# Altium footprint library 1-Antenna.P.PcbLib: 44 footprints (part 1 of 3)
Each footprint in its own frame and in the unit in brackets; x right, y up, seen from the top. Pads: shape width x height; smd on the part's side, far side on the other; paste and mask are expansions set on the pad; w line width, h text height; cw(c..) or ccw(c..) is an arc to the next point about the centre after c.
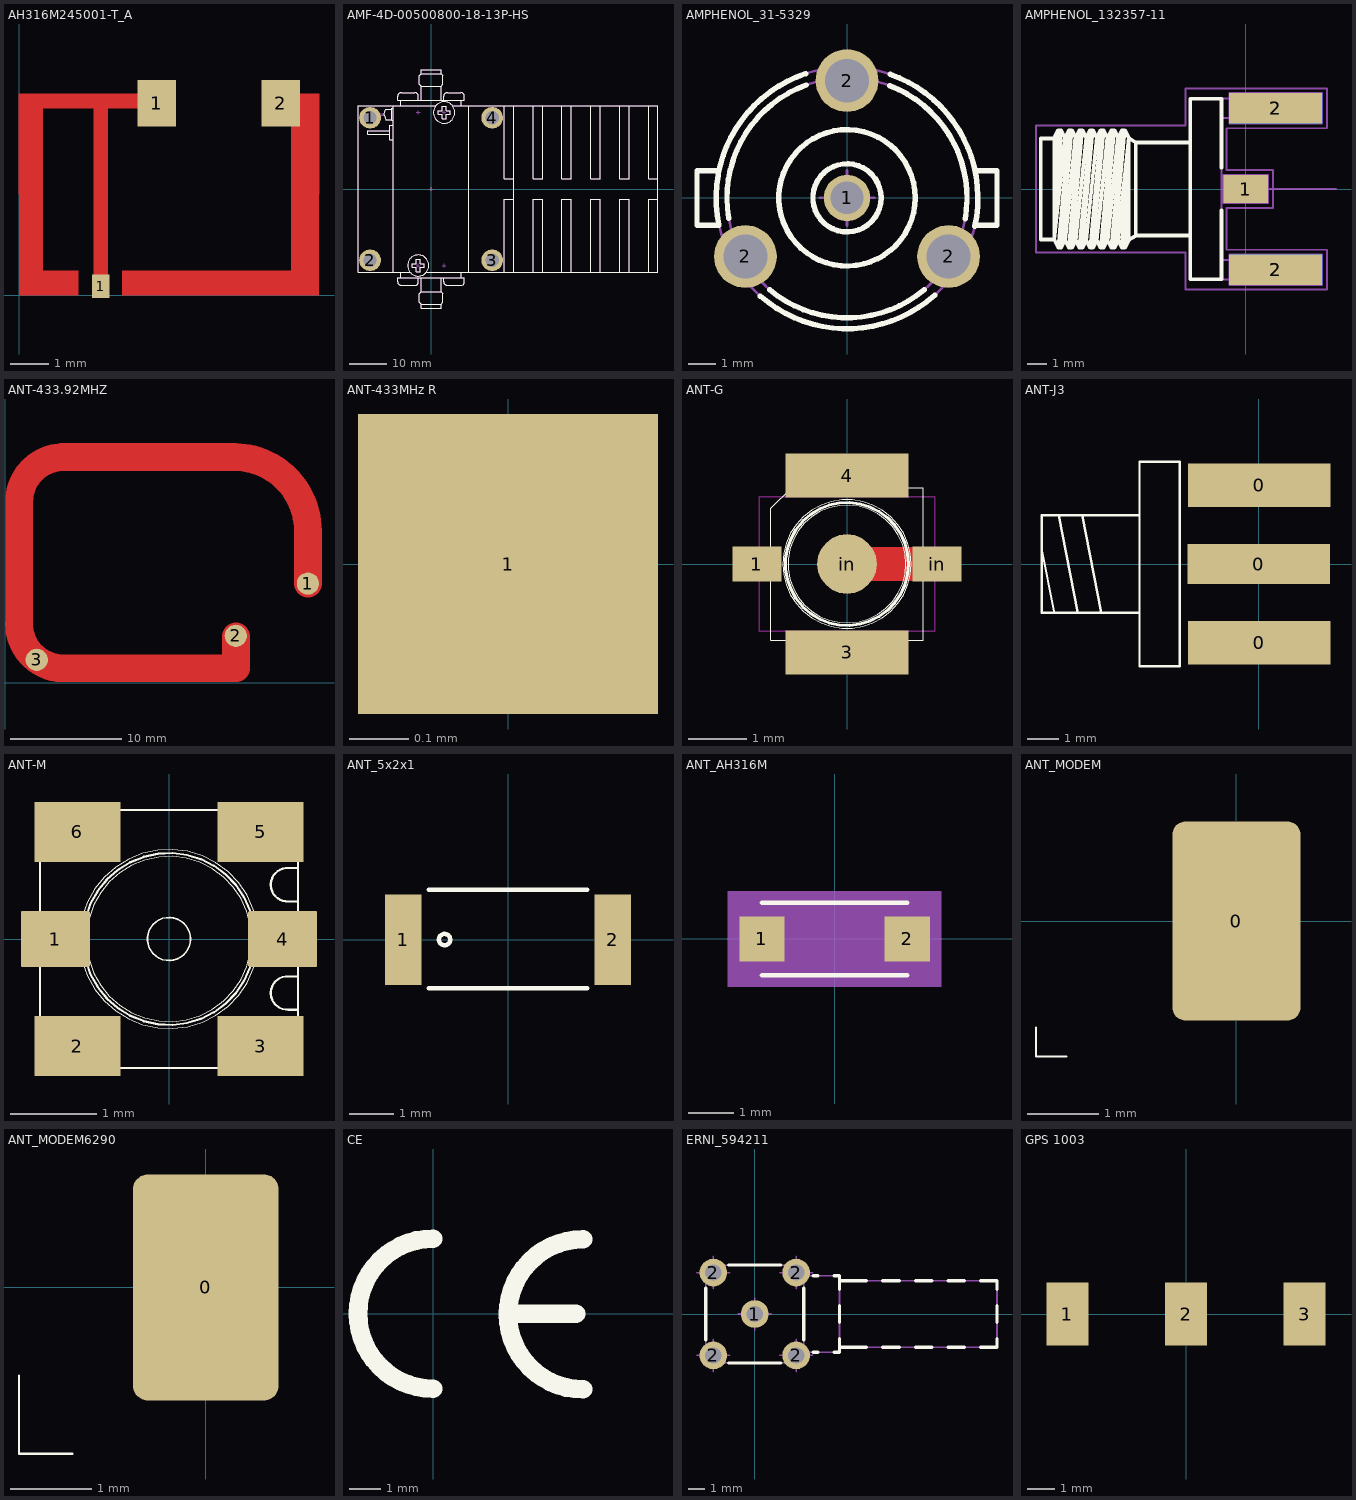
[diagram p0: the footprints below, top view; thin cyan lines are the x and y axes]

## AH316M245001-T_A [mil]
pads (3):
  rect 17.99x23.58 smd mask+2.76: 1(83,9)
  rect 39.37x47.24 smd: 1(140,195) 2(265.98,195)
Top Layer:
  region: 140,190 90,190 90,0 76,0 76,190 24,190 24,25 60,25 60,0 0,0 0,205 140,205
  region: 277,25 105,25 105,0 305,0 305,205 277,205
3D body "ah-316.stp": height 21.26, standoff 0.79, extent 140.01,163.11 266,226.89
3D body "ah316m245001.stp": height 1.97, standoff 0, extent 2.01,-0.05 305.16,222

## AMF-4D-00500800-18-13P-HS [mm] "AMF Series Amplifier With HeatSink"
height 16.4
pads (4):
  round 5.75 hole 3.5: 1(-16.2,18.9) 2(-16.2,-18.9) 3(16.2,-18.9) 4(16.2,18.9)
Top Overlay:
  circle w0.2: c3.459,20.3 r2.844
  circle w0.2: c-3.429,-20.3 r2.795
  lines w0.2: -16.2,22.1 -19.4,22.1 ; -11.008,14.48 -16.8,14.48 -16.8,15.48 -11.008,15.48 ; -10.5,18.425 -12,18.425 -12.4,19.6 -12.4,20 -12,21.175 -10.5,21.175 ; -10,-22.1 -10,22.1 ; -10,13.08 -11.008,13.08 -11.008,16.88 -10,16.88 ; -10,18.2 -10.5,18.2 -10.5,21.4 -10,21.4 ; -7.939,-23.6 -8.85,-23.6 -8.85,-24.6 ccw(c-7.85,-24.6) -7.85,-25.6 -4.35,-25.6 ccw(c-4.35,-24.6) -3.35,-24.6 -3.35,-23.6 ; -7.939,23.6 -8.85,23.6 -8.85,24.6 cw(c-7.85,24.6) -7.85,25.6 -4.35,25.6 cw(c-4.35,24.6) -3.35,24.6 -3.35,23.6 ; -2.65,-23.6 -2.65,-27.29 ; -2.65,23.6 -2.65,27.29 ; -1.291,-22.1 60.2,-22.1 60.2,22.1 5.631,22.1 ; 2.65,-23.6 2.65,-27.29 ; 2.65,23.6 2.65,27.29 ; 3.35,-23.6 3.35,-24.6 ccw(c4.35,-24.6) 4.35,-25.6 7.85,-25.6 ccw(c7.85,-24.6) 8.85,-24.6 8.85,-23.6 7.939,-23.6 ; 3.35,23.6 3.35,24.6 cw(c4.35,24.6) 4.35,25.6 7.85,25.6 cw(c7.85,24.6) 8.85,24.6 8.85,23.6 7.939,23.6 -8,23.6 ; 8,-22.1 8,-23.6 -8,-23.6 -8,-22.1 -5.567,-22.1 -19.4,-22.1 -19.4,22.1 ; 8,22.1 8,23.6 -8,23.6 ; 10,-22.1 10,22.1 ; 19.4,-22.1 19.4,-2.7 21.9,-2.7 ; 19.4,22.1 19.4,2.7 21.9,2.7 ; 21.9,-22.1 21.9,-2.7 ; 21.9,22.1 21.9,2.7 ; 27.06,-22.1 27.06,-2.7 29.56,-2.7 29.56,-22.1 ; 27.06,22.1 27.06,2.7 29.56,2.7 29.56,22.1 ; 34.72,-22.1 34.72,-2.7 37.22,-2.7 37.22,-22.1 ; 34.72,22.1 34.72,2.7 37.22,2.7 37.22,22.1 ; 42.38,-22.1 42.38,-2.7 44.88,-2.7 44.88,-22.1 ; 42.38,22.1 42.38,2.7 44.88,2.7 44.88,22.1 ; 50.04,-22.1 50.04,-2.7 52.54,-2.7 52.54,-22.1 ; 50.04,22.1 50.04,2.7 52.54,2.7 52.54,22.1 ; 57.7,-22.1 57.7,-2.7 60.2,-2.7 ; 57.7,22.1 57.7,2.7 60.2,2.7 ; -19.4,22.1 1.257,22.1 -8,22.1 ; -8,22.1 -8,23.6 ; -8,22.1 -8,23.6 ; -2.65,-30.6 -3.15,-30.1 -3.15,-27.79 -2.65,-27.29 ; -2.65,-30.6 -2.65,-31.6 2.65,-31.6 2.65,-30.6 ; -2.65,-30.6 2.65,-30.6 ; -2.65,-27.29 2.65,-27.29 ; -2.65,27.29 -3.15,27.79 -3.15,30.1 -2.65,30.6 ; -2.65,27.29 2.65,27.29 ; -2.65,30.6 -2.65,31.6 2.65,31.6 2.65,30.6 ; -2.65,30.6 2.65,30.6 ; 2.65,-30.6 3.15,-30.1 3.15,-27.79 2.65,-27.29 ; 2.65,27.29 3.15,27.79 3.15,30.1 2.65,30.6 ; 21.9,-2.7 21.9,2.7 ; -5.033,-20.8 -5.033,-19.8 -3.929,-19.8 -3.929,-18.696 -2.929,-18.696 -2.929,-19.8 -1.825,-19.8 -1.825,-20.8 -2.929,-20.8 -2.929,-21.904 -3.929,-21.904 -3.929,-20.8 -5.033,-20.8 ; 1.855,19.8 1.855,20.8 2.959,20.8 2.959,21.904 3.959,21.904 3.959,20.8 5.064,20.8 5.064,19.8 3.959,19.8 3.959,18.696 2.959,18.696 2.959,19.8 1.855,19.8
Mechanical 8:
  lines w0.1: -16.7,-18.9 -16.2,-18.9 ; -16.7,18.9 -16.2,18.9 ; -16.2,-19.4 -16.2,-18.9 ; -16.2,-18.4 -16.2,-18.9 ; -16.2,18.4 -16.2,18.9 ; -16.2,19.4 -16.2,18.9 ; -15.7,-18.9 -16.2,-18.9 ; -15.7,18.9 -16.2,18.9 ; 15.7,-18.9 16.2,-18.9 ; 15.7,18.9 16.2,18.9 ; 16.2,-19.4 16.2,-18.9 ; 16.2,-18.4 16.2,-18.9 ; 16.2,18.4 16.2,18.9 ; 16.2,19.4 16.2,18.9 ; 16.7,-18.9 16.2,-18.9 ; 16.7,18.9 16.2,18.9 ; -3.429,-20.3 -3.929,-20.3 -3.429,-20.3 ; -3.429,-20.3 -3.429,-20.8 -3.429,-20.3 ; -3.429,-20.3 -2.929,-20.3 -3.429,-20.3 ; -3.429,-20.3 -3.429,-19.8 -3.429,-20.3 ; -3.429,20.3 -2.929,20.3 -3.429,20.3 ; -3.429,20.3 -3.429,19.8 -3.429,20.3 ; -3.429,20.3 -3.929,20.3 -3.429,20.3 ; -3.429,20.3 -3.429,20.8 -3.429,20.3 ; 0,0 -0.5,0 0,0 ; 0,0 0,-0.5 0,0 ; 0,0 0.5,0 0,0 ; 0,0 0,0.5 0,0 ; 3.429,-20.3 3.929,-20.3 3.429,-20.3 ; 3.429,-20.3 3.429,-20.8 3.429,-20.3 ; 3.429,-20.3 2.929,-20.3 3.429,-20.3 ; 3.429,-20.3 3.429,-19.8 3.429,-20.3 ; 3.429,20.3 2.929,20.3 3.429,20.3 ; 3.429,20.3 3.429,19.8 3.429,20.3 ; 3.429,20.3 3.929,20.3 3.429,20.3 ; 3.429,20.3 3.429,20.8 3.429,20.3
Mechanical 14:
  drawing of 154 lines, arcs and shapes, not listed
3D body "AMF-4D-00500800-18-13P-HS.stp": height 16.5, standoff 0, extent -19.4,-31.6 60.2,31.6

## AMPHENOL_31-5329 [mm] "50 Ohm BNC PCB Receptacle (Jack), Post Terminal, 3 Legs"
height 17.6
pads (4):
  round 1.7 hole 1.2: 1(0,0)
  round 2.3 hole 1.6: 2(-3.724,-2.15) 2(0,4.3) 2(3.724,-2.15)
Top Overlay:
  circle w0.2: c0,0 r1.25
  circle w0.2: c0,0 r2.5
  lines w0.2: -4.695,1 -5.5,1 -5.5,-1 -4.695,-1 cw(c0,0) -1.518,4.554 ; -4.335,-0.752 cw(c0,0) -1.496,4.138 ; -3.175,-3.6 ccw(c0,0) 3.214,-3.565 ; -2.839,-3.362 ccw(c0,0) 2.824,-3.374 ; 1.569,4.111 cw(c0,0) 4.332,-0.772 ; 1.578,4.533 cw(c0,0) 4.685,-1.047 ; 4.695,-1 5.5,-1 5.5,1 4.695,1
Mechanical 8:
  lines w0.1: -4.59,-2.65 -3.724,-2.15 ; -4.224,-1.284 -3.724,-2.15 ; -3.224,-3.016 -3.724,-2.15 ; -2.858,-1.65 -3.724,-2.15 ; -1,0 0,0 ; -1,4.3 0,4.3 ; 0,-1 0,0 ; 0,1 0,0 ; 0,3.3 0,4.3 ; 0,5.3 0,4.3 ; 1,0 0,0 ; 1,4.3 0,4.3 ; 2.858,-1.65 3.724,-2.15 ; 3.224,-3.016 3.724,-2.15 ; 4.224,-1.284 3.724,-2.15 ; 4.59,-2.65 3.724,-2.15
Mechanical 14:
  circle w0.1: c0,0 r2.5
  circle w0.1: c0,0 r4.4
  circle w0.1: c0,0 r4.8
  lines w0.1: -4.695,-1 -5.5,-1 -5.5,1 -4.695,1 ; 4.695,-1 5.5,-1 5.5,1 4.695,1
3D body "v1712.stp": height 0.04, standoff -1.66, extent -0.85,-0.85 0.85,0.85
3D body "v230016.stp": height 0.04, standoff -1.66, extent -1.15,3.15 1.15,5.45
3D body "v230016.stp": height 0.04, standoff -1.66, extent 2.574,-3.3 4.874,-1
3D body "v230016.stp": height 0.04, standoff -1.66, extent -4.874,-3.3 -2.574,-1
3D body "AMPHENOL_31-5329.stp": height 17, standoff -3.2, extent -5.5,-4.8 5.5,4.8

## AMPHENOL_132357-11 [mm] "SMA End Launch Jack for 1.58mm PCB, 50 Ohm, Flat Tab Contact"
height 7.92
pads (5):
  rect 2.35x1.5 smd: 1(0,0)
  rect 4.9x1.6 smd: 2(1.575,-4.25) 2(1.575,4.25)
  rect 4.9x1.6 smd far side: 2(1.575,-4.25) 2(1.575,4.25)
Top Overlay:
  lines w0.2: -10.09,2.665 -10.805,2.665 -10.805,-2.665 -10.09,-2.665 ; -6.17,-2.665 -5.795,-2.453 ; -2.925,-2.453 -5.795,-2.453 ; -2.925,2.447 -5.795,2.447 ; -1.275,-1.137 -1.275,-4.76 -2.925,-4.76 -2.925,4.76 -1.275,4.76 -1.275,1.137 ; -10.09,-2.665 -10.09,2.715 -9.879,3.094 ; -10.09,-2.665 -9.879,-3.094 ; -10.09,-2.665 -9.53,2.715 ; -10.09,-2.665 -9.741,3.094 ; -10.09,-2.665 -9.879,3.094 ; -9.879,-3.094 -9.741,-3.094 ; -9.879,-3.094 -9.319,3.094 ; -9.879,3.094 -9.741,3.094 ; -9.741,-3.094 -9.53,-2.715 ; -9.741,-3.094 -9.181,3.094 ; -9.741,3.094 -9.53,2.715 ; -9.53,-2.715 -9.319,-3.094 ; -9.53,-2.715 -8.97,2.715 ; -9.53,2.715 -9.319,3.094 ; -9.319,-3.094 -9.181,-3.094 ; -9.319,-3.094 -8.759,3.094 ; -9.319,3.094 -9.181,3.094 ; -9.181,-3.094 -8.97,-2.715 ; -9.181,-3.094 -8.621,3.094 ; -9.181,3.094 -8.97,2.715 ; -8.97,-2.715 -8.759,-3.094 ; -8.97,-2.715 -8.41,2.715 ; -8.97,2.715 -8.759,3.094 ; -8.759,-3.094 -8.621,-3.094 ; -8.759,-3.094 -8.199,3.094 ; -8.759,3.094 -8.621,3.094 ; -8.621,-3.094 -8.41,-2.715 ; -8.621,-3.094 -8.061,3.094 ; -8.621,3.094 -8.41,2.715 ; -8.41,-2.715 -8.199,-3.094 ; -8.41,-2.715 -7.85,2.715 ; -8.41,2.715 -8.199,3.094 ; -8.199,-3.094 -8.061,-3.094 ; -8.199,-3.094 -7.639,3.094 ; -8.199,3.094 -8.061,3.094 ; -8.061,-3.094 -7.85,-2.715 ; -8.061,-3.094 -7.501,3.094 ; -8.061,3.094 -7.85,2.715 ; -7.85,-2.715 -7.639,-3.094 ; -7.85,-2.715 -7.29,2.715 ; -7.85,2.715 -7.639,3.094 ; -7.639,-3.094 -7.501,-3.094 ; -7.639,-3.094 -7.079,3.094 ; -7.639,3.094 -7.501,3.094 ; -7.501,-3.094 -7.29,-2.715 ; -7.501,-3.094 -6.941,3.094 ; -7.501,3.094 -7.29,2.715 ; -7.29,-2.715 -7.079,-3.094 ; -7.29,-2.715 -6.73,2.715 ; -7.29,2.715 -7.079,3.094 ; -7.079,-3.094 -6.941,-3.094 ; -7.079,-3.094 -6.519,3.094 ; -7.079,3.094 -6.941,3.094 ; -6.941,-3.094 -6.73,-2.715 ; -6.941,-3.094 -6.381,3.094 ; -6.941,3.094 -6.73,2.715 ; -6.73,-2.715 -6.519,-3.094 ; -6.73,-2.715 -6.17,2.713 ; -6.73,2.715 -6.519,3.094 ; -6.519,-3.094 -6.381,-3.094 ; -6.519,-3.094 -6.17,2.713 ; -6.519,3.094 -6.381,3.094 ; -6.381,-3.094 -6.17,-2.715 -6.17,2.713 ; -6.381,-3.094 -6.17,2.665 -5.795,2.447 ; -6.381,3.094 -6.17,2.713 ; -5.795,-2.453 -5.795,2.447
Mechanical 8:
  lines w0.1: -0.5,0 0,0 ; 0,-0.5 0,0 ; 0,0.5 0,0 ; 0.5,0 0,0 ; 1.075,-4.25 1.575,-4.25 ; 1.075,4.25 1.575,4.25 ; 1.575,-4.75 1.575,-4.25 ; 1.575,-3.75 1.575,-4.25 ; 1.575,3.75 1.575,4.25 ; 1.575,4.75 1.575,4.25 ; 2.075,-4.25 1.575,-4.25 ; 2.075,4.25 1.575,4.25 ; -1.175,-0.75 -1.175,0.75 1.175,0.75 1.175,-0.75 -1.175,-0.75 ; -0.875,-5.05 4.025,-5.05 4.025,-3.45 -0.875,-3.45 -0.875,-5.05 ; -0.875,3.45 4.025,3.45 4.025,5.05 -0.875,5.05 -0.875,3.45
Mechanical 14:
  lines w0.1: -10.09,2.665 -10.805,2.665 -10.805,-2.665 -10.09,-2.665 ; -6.17,-2.665 -5.795,-2.453 ; -2.925,-2.453 -5.795,-2.453 ; -2.925,2.447 -5.795,2.447 ; -1.275,-4.76 -1.275,0 ; -1.275,-3.74 3.475,-3.74 3.475,-4.76 -2.925,-4.76 -2.925,4.76 3.475,4.76 3.475,3.74 -1.275,3.74 ; -1.275,-0.251 0.635,-0.251 0.635,0.251 -1.275,0.251 ; -1.275,4.76 -1.275,0 ; 4.75,0 -1.275,0 ; -10.09,-2.665 -10.09,2.715 -9.879,3.094 ; -10.09,-2.665 -9.879,-3.094 ; -10.09,-2.665 -9.53,2.715 ; -10.09,-2.665 -9.741,3.094 ; -10.09,-2.665 -9.879,3.094 ; -9.879,-3.094 -9.741,-3.094 ; -9.879,-3.094 -9.319,3.094 ; -9.879,3.094 -9.741,3.094 ; -9.741,-3.094 -9.53,-2.715 ; -9.741,-3.094 -9.181,3.094 ; -9.741,3.094 -9.53,2.715 ; -9.53,-2.715 -9.319,-3.094 ; -9.53,-2.715 -8.97,2.715 ; -9.53,2.715 -9.319,3.094 ; -9.319,-3.094 -9.181,-3.094 ; -9.319,-3.094 -8.759,3.094 ; -9.319,3.094 -9.181,3.094 ; -9.181,-3.094 -8.97,-2.715 ; -9.181,-3.094 -8.621,3.094 ; -9.181,3.094 -8.97,2.715 ; -8.97,-2.715 -8.759,-3.094 ; -8.97,-2.715 -8.41,2.715 ; -8.97,2.715 -8.759,3.094 ; -8.759,-3.094 -8.621,-3.094 ; -8.759,-3.094 -8.199,3.094 ; -8.759,3.094 -8.621,3.094 ; -8.621,-3.094 -8.41,-2.715 ; -8.621,-3.094 -8.061,3.094 ; -8.621,3.094 -8.41,2.715 ; -8.41,-2.715 -8.199,-3.094 ; -8.41,-2.715 -7.85,2.715 ; -8.41,2.715 -8.199,3.094 ; -8.199,-3.094 -8.061,-3.094 ; -8.199,-3.094 -7.639,3.094 ; -8.199,3.094 -8.061,3.094 ; -8.061,-3.094 -7.85,-2.715 ; -8.061,-3.094 -7.501,3.094 ; -8.061,3.094 -7.85,2.715 ; -7.85,-2.715 -7.639,-3.094 ; -7.85,-2.715 -7.29,2.715 ; -7.85,2.715 -7.639,3.094 ; -7.639,-3.094 -7.501,-3.094 ; -7.639,-3.094 -7.079,3.094 ; -7.639,3.094 -7.501,3.094 ; -7.501,-3.094 -7.29,-2.715 ; -7.501,-3.094 -6.941,3.094 ; -7.501,3.094 -7.29,2.715 ; -7.29,-2.715 -7.079,-3.094 ; -7.29,-2.715 -6.73,2.715 ; -7.29,2.715 -7.079,3.094 ; -7.079,-3.094 -6.941,-3.094 ; -7.079,-3.094 -6.519,3.094 ; -7.079,3.094 -6.941,3.094 ; -6.941,-3.094 -6.73,-2.715 ; -6.941,-3.094 -6.381,3.094 ; -6.941,3.094 -6.73,2.715 ; -6.73,-2.715 -6.519,-3.094 ; -6.73,-2.715 -6.17,2.713 ; -6.73,2.715 -6.519,3.094 ; -6.519,-3.094 -6.381,-3.094 ; -6.519,-3.094 -6.17,2.713 ; -6.519,3.094 -6.381,3.094 ; -6.381,-3.094 -6.17,-2.715 -6.17,2.713 ; -6.381,-3.094 -6.17,2.665 -5.795,2.447 ; -6.381,3.094 -6.17,2.713 ; -5.795,-2.453 -5.795,2.447
Mechanical 15:
  lines w0.1: -11.055,-3.344 -3.175,-3.344 -3.175,-5.3 4.275,-5.3 4.275,-3.2 -1.025,-3.2 -1.025,-1 1.425,-1 1.425,1 -1.025,1 -1.025,3.2 4.275,3.2 4.275,5.3 -3.175,5.3 -3.175,3.344 -11.055,3.344 -11.055,-3.344
3D body "p2415.stp": height 0.02, standoff 0, extent -1.218,-0.754 1.182,0.746
3D body "p4916.stp": height 0.02, standoff 0, extent -0.86,-5.056 4.04,-3.456
3D body "p4916.stp": height 0.02, standoff 0, extent -0.873,3.461 4.027,5.061
3D body "AMPHENOL_132357-11.stp": height 4.08, standoff -3.84, extent -10.805,-4.76 3.475,4.76

## ANT-433.92MHZ [mm]
pads (3):
  round 2 smd: 1(27.229,8.915) 2(20.752,4.216) 3(2.845,2.057)
Top Layer:
  lines w2.5: 1.25,5.292 ccw(c5.25,5.295) 5.258,1.295 ; 1.27,4.775 1.27,16.408 ; 1.27,16.281 cw(c5.27,16.29) 5.266,20.29 ; 4.75,1.295 20.752,1.295 20.752,4.145 ; 5.131,20.295 20.6,20.295 ; 20.606,20.295 cw(c20.6,13.672) 27.223,13.658 ; 27.252,8.925 27.252,13.672
3D body "ant_43392.stp": height 0.25, standoff 0, extent 0,0 28.5,21.59

## ANT-433MHz R [mil]
height 460.63
pads (1):
  rect 20x20 smd: 1(0,0)
3D body "gpsant-18x18x6.stp": height 238.19, standoff 0, extent -370.04,-370.15 370.12,370.01

## ANT-G [mm] "MM9329-2700//Murata"
height 6.72
pads (5):
  rect 0.838x0.6 smd mask+0.051: 1(-1.537,0) in(1.537,0)
  rect 2.1x0.75 smd mask+0.051: 3(0,-1.51) 4(0,1.51)
  round 1.016 smd mask+0.051: in(0,0)
Top Layer:
  rectangle: 0.376,-0.292 1.196,0.29
Top Overlay:
  circle w0.003: c0,0 r1.006
  circle w0.005: c0,0 r1.097
  circle w0.051: c0,0 r1.05
  circle w0.152: c0,0 r0.069
  lines w0.005: -1.3,-1.3 -1.3,0.947 -0.945,1.303 1.3,1.303 1.3,-1.3 -1.3,-1.3
  lines w0.025: -1.501,-0.126 -1.501,-0.251 -1.318,-0.251 -1.318,0.251 -1.501,0.251 -1.501,0.126 ; -1.501,-0.124 ccw(c-1.501,-0.003) -1.501,0.119 ; 1.501,-0.126 1.501,-0.251 1.318,-0.251 1.318,0.251 1.501,0.251 1.501,0.126 ; 1.501,-0.122 cw(c1.501,0) 1.501,0.122 ; -0.935,-1.501 -0.935,-1.316 0.935,-1.316 0.935,-1.501 -0.935,-1.501 ; -0.932,1.318 -0.932,1.504 0.937,1.504 0.937,1.318 -0.932,1.318
Keep-Out Layer:
  lines w0.025: -1.5,-1.15 1.5,-1.15 1.5,1.15 -1.5,1.15 -1.5,-1.15
3D body "p08065.stp": height 0.01, standoff 0, extent 1.159,-0.323 1.959,0.327
3D body "p08065.stp": height 0.01, standoff 0, extent -1.955,-0.314 -1.155,0.336
3D body "p21075.stp": height 0.02, standoff 0, extent -1.048,1.134 1.052,1.884
3D body "p21075.stp": height 0.02, standoff 0, extent -1.048,-1.876 1.052,-1.126
3D body "ant-g.stp": height 1.15, standoff 0, extent -1.499,-1.501 1.501,1.499

## ANT-J3 [mm]
height 6.72
pads (3):
  rect 4.6x1.3 smd mask+0.051: 0(0,0)
  rect 4.6x1.4 smd mask+0.051: 0(0.013,-2.54) 0(0.013,2.54)
Top Overlay:
  lines w0.076: -7.007,-1.575 -7.007,1.575 -3.848,1.575 ; -7.007,0.508 -6.604,-1.524 ; -6.968,-1.575 -3.874,-1.575 ; -6.452,1.575 -5.842,-1.575 ; -5.69,1.575 -5.08,-1.575 ; -3.848,3.302 -3.848,-3.302 -2.587,-3.302 ; -3.835,3.302 -2.548,3.302 -2.548,-3.302
3D body "p4613.stp": height 0.02, standoff 0, extent -2.282,-0.662 2.318,0.638
3D body "p4614.stp": height 0.02, standoff 0, extent -2.282,1.828 2.318,3.228
3D body "p4614.stp": height 0.02, standoff 0, extent -2.282,-3.251 2.318,-1.851

## ANT-M [mm] "MM8130-2610B//Murata"
height 6.72
pads (6):
  rrect5% 0.8x0.65 smd: 1(-1.321,0) 4(1.321,0)
  rect 1x0.7 smd: 2(-1.067,-1.245) 3(1.067,-1.245) 5(1.067,1.245) 6(-1.067,1.245)
Top Overlay:
  circle w0.001: c0,0 r0.96
  circle w0.001: c0,0 r1.041
  circle w0.025: c0,0 r1
  circle w0.02: c0,0 r0.251
  lines w0.025: 1.5,-0.823 1.387,-0.823 cw(c1.378,-0.629) 1.387,-0.434 1.5,-0.434 ; 1.5,0.437 1.387,0.437 cw(c1.378,0.631) 1.387,0.826 1.5,0.826 ; -1.5,-1.5 1.5,-1.5 1.5,1.5 -1.5,1.5 -1.5,-1.5
3D body "p08065.stp": height 0.01, standoff 0, extent 0.919,-0.322 1.719,0.328
3D body "p08065.stp": height 0.01, standoff 0, extent -1.718,-0.322 -0.918,0.328
3D body "p1007.stp": height 0.01, standoff 0, extent -1.565,0.894 -0.565,1.594
3D body "p1007.stp": height 0.01, standoff 0, extent 0.566,0.894 1.566,1.594
3D body "p1007.stp": height 0.01, standoff 0, extent -1.569,-1.601 -0.569,-0.901
3D body "p1007.stp": height 0.01, standoff 0, extent 0.57,-1.593 1.57,-0.893
3D body "ant_m.stp": height 1.75, standoff 0, extent -1.475,-1.499 1.525,1.501

## ANT_5x2x1 [mil]
height 460.63
pads (2):
  rect 32x80 smd mask+2: 1(-92.52,0)
  rect 32x80 smd mask+2.76: 2(92.52,0)
Top Overlay:
  circle w3.94: c-56.02,0 r5
  lines w3.94: -70,-43 70,-43 ; -70,44 70,44
3D body "2-0_8.stp": height 0.79, standoff 0, extent 76.77,-39.36 108.27,39.38
3D body "2-0_8.stp": height 0.79, standoff 0, extent -108.27,-39.36 -76.77,39.38
3D body "ant_5-2-1.stp": height 39.37, standoff 0, extent -98.43,-39.37 98.43,39.37

## ANT_AH316M [mm] "ANT_AH316M"
pads (2):
  rect 1x1 smd: 1(-1.6,0) 2(1.6,0)
Top Overlay:
  lines w0.1: -1.6,-0.8 1.6,-0.8 ; -1.6,0.8 1.6,0.8
Mechanical 16:
  region: -2.35,-1.05 2.35,-1.05 2.35,1.05 -2.35,1.05
  lines w0.025: -1.6,-0.8 1.6,-0.8 1.6,0.8 -1.6,0.8 -1.6,-0.8
Mechanical 32:
  text "2" at 1.397,0 h0.51
  text "1" at -1.803,0 h0.51
  text ".Designator" at -0.503,-0.339 h0.64
  text "1" at -2.268,0.423 h0.64
  text "2" at 1.796,0.423 h0.64
3D body "ah-316.stp": height 0.54, standoff 0.02, extent -1.544,-0.757 1.656,0.863

## ANT_MODEM [mm]
pads (1):
  rrect20% 1.8x2.8 smd: 0(0,0)
Top Overlay:
  lines w0.025: -2.819,-1.499 -2.819,-1.905 -2.388,-1.905
3D body "ant_modem.stp": height 4.15, standoff 0.1, extent -2.743,-1.803 16.657,8.7

## ANT_MODEM6290 [mm]
pads (1):
  rrect20% 1.8x2.8 smd: 0(0,0)
Top Overlay:
  lines w0.025: -2.311,-1.092 -2.311,-2.057 -1.651,-2.057
3D body "ant_modem6290.stp": height 3.6, standoff 0, extent -2.286,-2.032 16.514,8.668

## CE [mm]
Top Overlay:
  lines w0.6: 0,-2.413 cw(c0,0) 0,2.413 ; 2.53,0 4.6,0 ; 4.826,-2.438 cw(c4.826,-0.025) 4.826,2.388
3D body "ce.stp": height 0.02, standoff 0, extent -2.725,-2.725 4.82,2.725

## ERNI_594211 [mm] "Special Contacts for DIN Connectors, Coax Right Angle Female"
height 6
pads (5):
  round 1.7 hole 1: 1(0,0) 2(-2.54,-2.54) 2(-2.54,2.54) 2(2.54,-2.54) 2(2.54,2.54)
Top Overlay:
  lines w0.2: -3,-1.596 -3,1.596 ; -1.596,-3 1.596,-3 ; -1.596,3 1.596,3 ; 3,-1.596 3,1.596 ; 3.573,-2.35 3.86,-2.35 ; 3.573,2.35 3.86,2.35 ; 4.86,-2.35 5.2,-2.35 5.2,-1.5 ; 4.86,2.35 5.2,2.35 5.2,1.5 ; 5.2,-2.035 6.86,-2.035 ; 5.2,-0.5 5.2,0.5 ; 5.2,2.035 6.86,2.035 ; 7.86,-2.035 8.86,-2.035 ; 7.86,2.035 8.86,2.035 ; 9.86,-2.035 10.86,-2.035 ; 9.86,2.035 10.86,2.035 ; 11.86,-2.035 12.86,-2.035 ; 11.86,2.035 12.86,2.035 ; 13.86,-2.035 14.86,-2.035 ; 13.86,2.035 14.86,2.035 14.86,1.5 ; 14.86,-2.035 14.86,-1.5 14.86,-2.035 ; 14.86,-0.5 14.86,0.5 14.86,-0.5
Mechanical 8:
  lines w0.1: -3.54,-2.54 -2.54,-2.54 ; -3.54,2.54 -2.54,2.54 ; -2.54,-3.54 -2.54,-2.54 ; -2.54,-1.54 -2.54,-2.54 ; -2.54,1.54 -2.54,2.54 ; -2.54,3.54 -2.54,2.54 ; -1.54,-2.54 -2.54,-2.54 ; -1.54,2.54 -2.54,2.54 ; -1,0 0,0 ; 0,-1 0,0 ; 0,1 0,0 ; 1,0 0,0 ; 1.54,-2.54 2.54,-2.54 ; 1.54,2.54 2.54,2.54 ; 2.54,-3.54 2.54,-2.54 ; 2.54,-1.54 2.54,-2.54 ; 2.54,1.54 2.54,2.54 ; 2.54,3.54 2.54,2.54 ; 3.54,-2.54 2.54,-2.54 ; 3.54,2.54 2.54,2.54
Mechanical 14:
  lines w0.1: 3,-2.35 5.2,-2.35 5.2,2.35 3,2.35 ; 5.2,-2.035 14.86,-2.035 14.86,2.035 5.2,2.035 ; -3,-3 -3,3 3,3 3,-3 -3,-3
3D body "v1712.stp": height 0.04, standoff -1.66, extent -3.39,-3.39 -1.69,-1.69
3D body "v1712.stp": height 0.04, standoff -1.66, extent -3.39,1.69 -1.69,3.39
3D body "v1712.stp": height 0.04, standoff -1.66, extent -0.85,-0.85 0.85,0.85
3D body "v1712.stp": height 0.04, standoff -1.66, extent 1.69,1.69 3.39,3.39
3D body "v1712.stp": height 0.04, standoff -1.66, extent 1.69,-3.39 3.39,-1.69
3D body "ERNI_594211.stp": height 6.85, standoff -2.75, extent -3,-3 14.86,3

## GPS 1003 [mm]
height 11.7
pads (3):
  rect 1.5x2.25 smd: 1(-4.25,0) 2(0,0) 3(4.25,0)
3D body "gps-1003.stp": height 1.48, standoff 0, extent -5,-1.5 5,1.5